# Altium footprint library SnapEDApcb.PcbLib: 1 footprints
Each footprint in its own frame and in the unit in brackets; x right, y up, seen from the top. Pads: shape width x height; smd on the part's side, far side on the other; paste and mask are expansions set on the pad; w line width, h text height; cw(c..) or ccw(c..) is an arc to the next point about the centre after c.
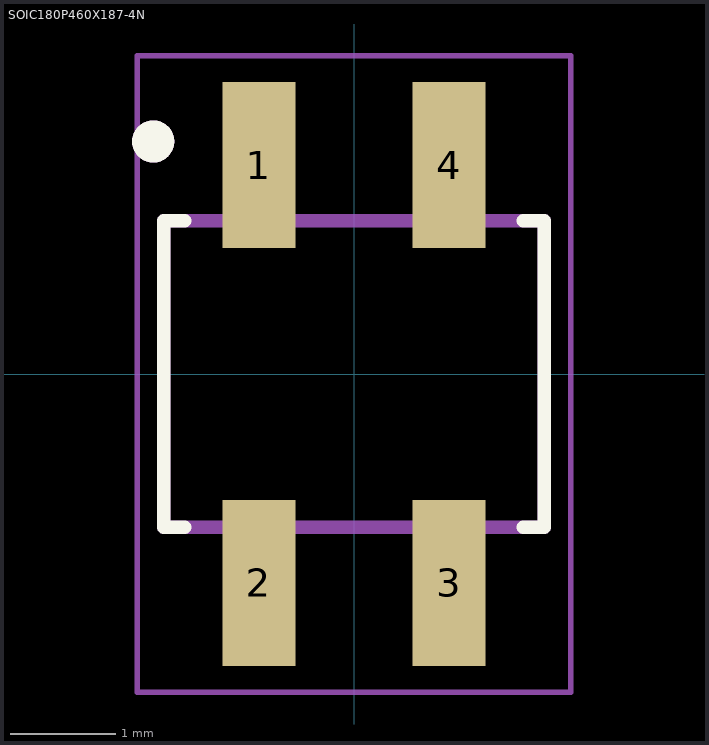
[diagram p0: the footprint, top view; thin cyan lines are the x and y axes]

## SOIC180P460X187-4N [mm]
pads (4):
  rect 0.69x1.57 smd: 1(-0.9,1.975) 2(-0.9,-1.975) 3(0.9,-1.975) 4(0.9,1.975)
Top Overlay:
  circle w0.2: c-1.9,2.2 r0.1
  lines w0.127: -1.6,-1.45 -1.8,-1.45 -1.8,1.45 -1.6,1.45 ; 1.6,-1.45 1.8,-1.45 1.8,1.45 1.6,1.45
Mechanical 13:
  circle w0.2: c-1.9,2.2 r0.1
  lines w0.127: -1.8,-1.45 1.8,-1.45 1.8,1.45 -1.8,1.45 -1.8,-1.45
Mechanical 15:
  lines w0.05: -2.05,-3.01 2.05,-3.01 2.05,3.01 -2.05,3.01 -2.05,-3.01